# Altium schematic symbol library Semiconductors.SchLib: 12 symbols
Pins are listed as number, name and electrical type; pins without a type are passive.

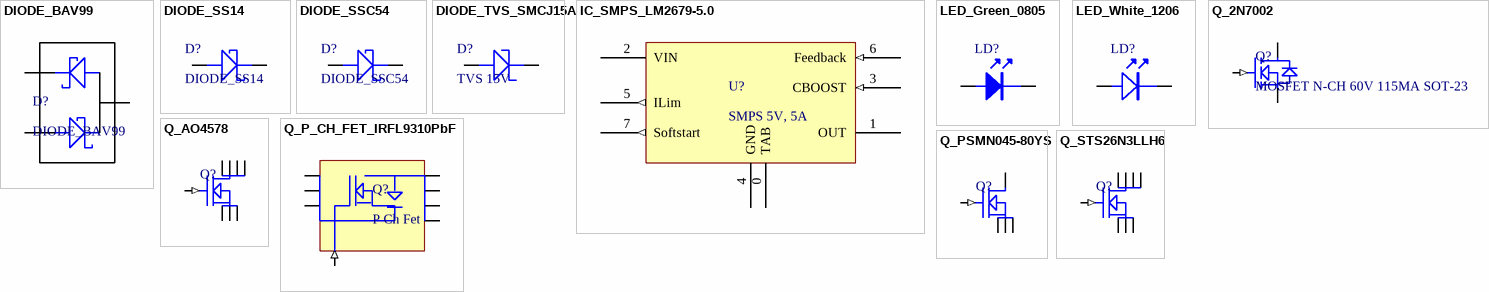
[diagram p0: symbols DIODE_BAV99 to Q_STS26N3LLH6]

## DIODE_BAV99
designator D?
BAV99; Manufacturer: ON Semiconductor; Manufacturer P/N: BAV99LT1G
footprint BAV99_SOT23 (Footprint not found)
pins: 1, 2, 3

## DIODE_SS14
designator D?
Schottky Diode, 1A, 40V SS14; Manufacturer: Fairchild; Manufacturer P/N: SS14
footprint DO-214AC
pins: A, K

## DIODE_SSC54
designator D?
Schottky Diode, 5A, 40V SSC54, DO214AB; Manufacturer: Vishay; Manufacturer P/N: SSC54-E3/9AT
footprint DO-214AB
pins: A, K

## DIODE_TVS_SMCJ15A
designator D?, comment TVS 15V
TVS Diode, 15V; Manufacturer: LIttlefuse; Manufacturer P/N: SMCJ15A
footprint DO-214AB
pins: A, K

## IC_SMPS_LM2679-5.0
designator U?, comment SMPS 5V, 5A
Manufacturer: TEXAS INSTRUMENTS; Manufacturer P/N: LM2679S-5.0
footprint IC_SMPS_LM2679-5.0
pins: 0 TAB (power), 1 OUT (power), 2 VIN (power), 3 CBOOST (in), 4 GND (power), 5 ILim (out), 6 Feedback (in), 7 Softstart (out)

## LED_Green_0805
designator LD?, comment Green LED 0805  (value not drawn)
WL-SMCW SMD CHIP LED WATERCLEAR; Manufacturer: Wurth; Manufacturer P/N: 150080VS75000
footprint 0805DIODE
pins: A, K

## LED_White_1206
designator LD?, comment Green LED 0805  (value not drawn)
WL-SMCW SMD CHIP LED WATERCLEAR; Manufacturer: Wurth; Manufacturer P/N: 158301260
footprint Wurth_1206_Led
pins: 1, 2

## Q_2N7002
designator Q?, comment MOSFET N-CH 60V 115MA SOT-23
Manufacturer: Fairchild; Manufacturer P/N: 2N7002
footprint SOT-23
pins: 1 GATE (in), 2 SOURCE (power), 3 DRAIN (power)

## Q_AO4578
designator Q?, comment N Channel FET  (value not drawn)
MOSFET N-CH 30V 20A LFPAK; Manufacturer: Alpha & Omega Semiconductor Inc.; Manufacturer P/N: AO4578
footprint SO-8
pins: 1 SOURCE (power), 2 SOURCE (power), 3 SOURCE (power), 4 GATE (in), 5 DRAIN (power), 6 DRAIN (power), 7 DRAIN (power), 8 DRAIN (power)

## Q_P_CH_FET_IRFL9310PbF
designator Q?, comment P Ch Fet
P Channel FET, 4.6mOhm, 20A; Manufacturer: International Rectifier; Manufacturer P/N: IRF9310PbF
footprint SO-8
pins: 1 SOURCE (power), 2 SOURCE (power), 3 SOURCE (power), 4 GATE (in), 5 DRAIN (power), 6 DRAIN (power), 7 DRAIN (power), 8 DRAIN (power)

## Q_PSMN045-80YS
designator Q?, comment N Channel FET  (value not drawn)
MOSFET N-CH 80V 24A LFPAK; Manufacturer: NXP; Manufacturer P/N: PSMN045-80YS,115
footprint TO127P600X110-5M (Footprint not found)
pins: 1 SOURCE (power), 2 SOURCE (power), 3 SOURCE (power), 4 GATE (in), 5 DRAIN (power)

## Q_STS26N3LLH6
designator Q?, comment N Channel FET  (value not drawn)
MOSFET N-CH 30V 26A LFPAK; Manufacturer: ST; Manufacturer P/N: STS26N3LLH6
footprint SO-8
pins: 1 SOURCE (power), 2 SOURCE (power), 3 SOURCE (power), 4 GATE (in), 5 DRAIN (power), 6 DRAIN (power), 7 DRAIN (power), 8 DRAIN (power)